# EAGLE library part 685119134923 (library HermitRetro)
WR-COM SMT Horizontal HDMI, 19 pins=>Code : Con_I-O_COM_HDMI_685119134923 <http://katalog.we-online.de/media/images/eican/Con_I-O_COM_HDMI_685119134923_pf2.jpg> Details see: http://katalog.we-online.de/en/em/685_119_134_923 Created 2014-07-09, Karrer Zheng 2014 (C) Würth Elektronik
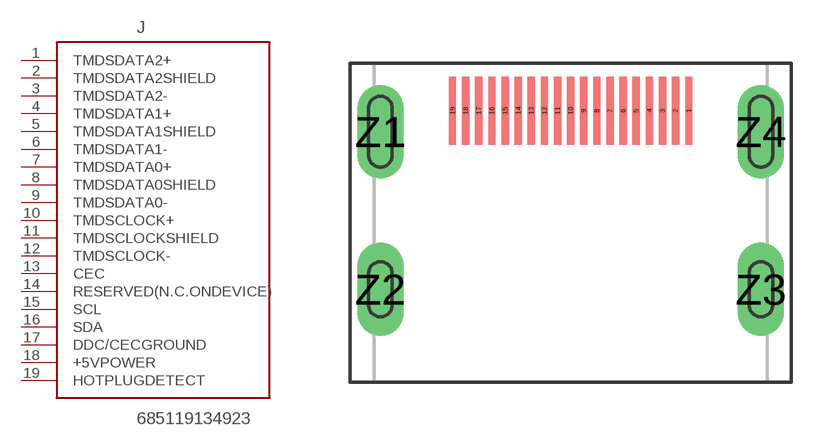
[diagram p27: symbol with the pads of 685119134923; footprint 685119134923]

Designator prefix J

## 685119134923  [685119134923]
1  TMDSDATA2+
2  TMDSDATA2SHIELD
3  TMDSDATA2-
4  TMDSDATA1+
5  TMDSDATA1SHIELD
6  TMDSDATA1-
7  TMDSDATA0+
8  TMDSDATA0SHIELD
9  TMDSDATA0-
10  TMDSCLOCK+
11  TMDSCLOCKSHIELD
12  TMDSCLOCK-
13  CEC
14  RESERVED(N.C.ONDEVICE)
15  SCL
16  SDA
17  DDC/CECGROUND
18  +5VPOWER
19  HOTPLUGDETECT

## Footprint 685119134923 (pad centres in mm)
WR-COM SMT Horizontal HDMI, 19 pins
smd 0.28 x 2.6: 1 4.5,0; 2 4,0; 3 3.5,0; 4 3,0; 5 2.5,0; 6 2,0; 7 1.5,0; 8 1,0; 9 0.5,0; 10 0,0; 11 -0.5,0; 12 -1,0; 13 -1.5,0; 14 -2,0; 15 -2.5,0; 16 -3,0; 17 -3.5,0; 18 -4,0; 19 -4.5,0
drill 0.9 pad 1.778 long: Z1 -7.25,-0.8; Z2 -7.25,-6.8; Z3 7.25,-6.8; Z4 7.25,-0.8